# Altium footprint library PH_HEADER_4_WAY.PcbLib: 1 footprints
Each footprint in its own frame and in the unit in brackets; x right, y up, seen from the top. Pads: shape width x height; smd on the part's side, far side on the other; paste and mask are expansions set on the pad; w line width, h text height; cw(c..) or ccw(c..) is an arc to the next point about the centre after c.
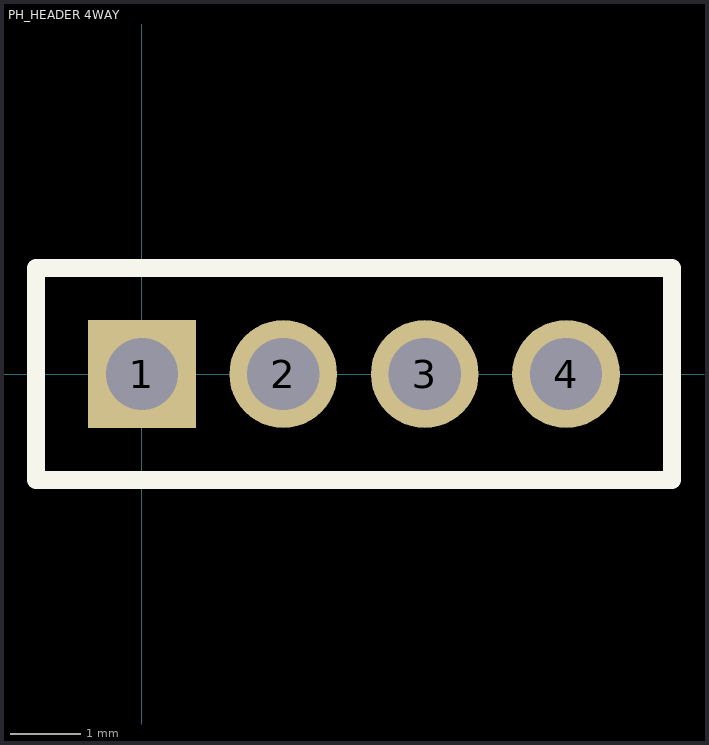
[diagram p0: the footprint, top view; thin cyan lines are the x and y axes]

## PH_HEADER 4WAY [mil] "4 WAY PH HEADER"
pads (4):
  rect 60x60 hole 40.16: 1(0,0)
  round 60 hole 40.16: 2(78.74,0) 3(157.48,0) 4(236.22,0)
Top Overlay:
  lines w10: -59.06,-59.06 295.28,-59.06 295.28,59.06 -59.06,59.06 -59.06,-59.06